# EAGLE library part LD09S24A4GV00LF (library Connector_D-Sub)
D-SUB, 9POS, RCPT, VERT SLDR Datasheet <http://www.amphenol-icc.com/media/wysiwyg/files/drawing/10130912.pdf>
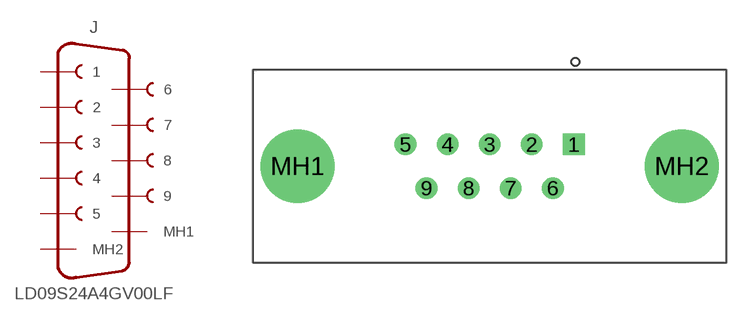
[diagram p9: symbol with the pads of LD09S24A4GV00LF; footprint LD09S24A4GV00LF]

Designator prefix J

## LD09S24A4GV00LF (CATEGORY: Connector; GENDER: Female; MANUFACTURER: Amphenol FCI; MPN: LD09S24A4GV00LF; OPERATING_TEMPERATURE: - 55 C to +105 C; PART_STATUS: ACTIVE; ROHS_COMPLIANT: COMPLIANT; SERIES: Delta D; SUB_CATEGORY: D-SUB; TYPE: Vertical; VALUE: D-SUB-RCPT-9P)  [LD09S24A4GV00LF]
1  1  pas
2  2  pas
3  3  pas
4  4  pas
5  5  pas
6  6  pas
7  7  pas
8  8  pas
9  9  pas
MH1  MH2  sup
MH2  MH1  sup

## Footprint LD09S24A4GV00LF (pad centres in mm)
LD09S24A4GV00LF-1
drill 0.9 pad 1.4 square: 1 0,0
drill 0.9 pad 1.4: 2 -2.74,0; 3 -5.48,0; 4 -8.22,0; 5 -10.96,0; 6 -1.37,-2.84; 7 -4.11,-2.84; 8 -6.85,-2.84; 9 -9.59,-2.84
drill 3.1 pad 4.8: MH1 -17.975,-1.42; MH2 7.015,-1.42